# EAGLE library part SL_70543_6 (library Fitch_Eagle_Library)
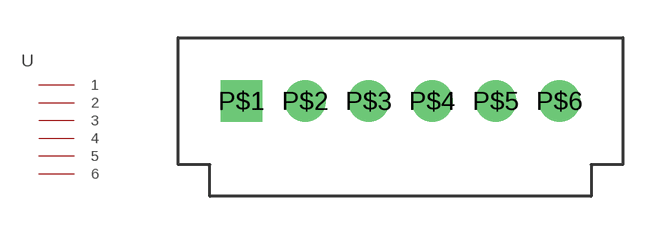
[diagram p24: symbol with the pads of SL_70543_6; footprint SL_70543_6]

Designator prefix -

## SL_70543_6  [SL_70543_6]
P$1  1
P$2  2
P$3  3
P$4  4
P$5  5
P$6  6

## Footprint SL_70543_6 (pad centres in mm)
drill 1.1 square: P$1 0,0
drill 1.1: P$2 2.54,0; P$3 5.08,0; P$4 7.62,0; P$5 10.16,0; P$6 12.7,0